# Altium integrated library LIB2022 - Optoelectronics.IntLib: 16 symbols
Pins are listed as number, name and electrical type; pins without a type are passive.

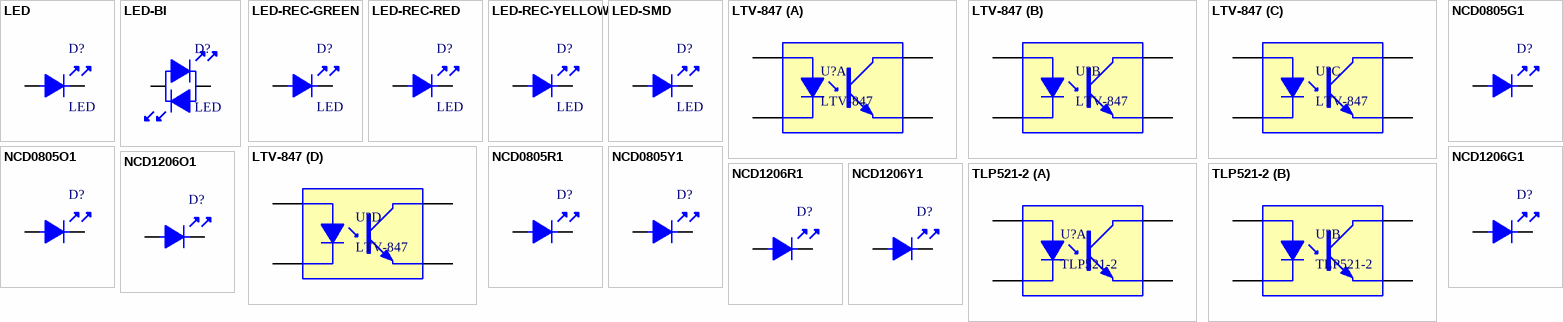
[diagram p0: symbols LED to TLP521-2]

## LED
designator D?
footprint LED-5MM
footprint LED-3MM
pins: 1, 2

## LED-BI
designator D?, comment LED
footprint LED-5MM - BI
footprint LED-3MM
pins: 1, 2

## LED-REC-GREEN
designator D?, comment LED
Green 5mm x 2mm Rectangular Led
footprint LED-5MMx2MM-G
pins: 1, 2

## LED-REC-RED
designator D?, comment LED
Red 5mm x 2mm Rectangular Led
footprint LED-5MMx2MM-R
pins: 1, 2

## LED-REC-YELLOW
designator D?, comment LED
Yellow 5mm x 2mm Rectangular Led
footprint LED-5MMx2MM-Y
pins: 1, 2

## LED-SMD
designator D?, comment LED
footprint LED-0805
pins: 1, 2

## LTV-847
designator U?
Optoisolator Transistor Output 5000Vrms 4 Channel 16-DIP; Digikey_PN: 160-1370-5-ND; JLCPart: C10794
footprint DIP16
part A pins: 1 A, 2 K, 15 E, 16 C
part B pins: 3 A, 4 K, 13 E, 14 C
part C pins: 5 A, 6 K, 11 E, 12 C
part D pins: 7 A, 8 K, 9 E, 10 C

## NCD0805G1
designator D?
Green 65mW 0805 Light Emitting Diodes (LED); JLCPart: C84260
footprint LED-0805
pins: 1, 2

## NCD0805O1
designator D?
Orange 65mW 0805 Light Emitting Diodes (LED); JLCPart: C84262
footprint LED-0805
pins: 1, 2

## NCD0805R1
designator D?
Red 65mW 0805 Light Emitting Diodes (LED); JLCPart: C84256
footprint LED-0805
pins: 1, 2

## NCD0805Y1
designator D?
Yellow 65mW 0805 Light Emitting Diodes (LED); JLCPart: C84261
footprint LED-0805
pins: 1, 2

## NCD1206G1
designator D?
Green 72mW 1206 Light Emitting Diodes (LED); JLCPart: C99881
footprint LED-1206
pins: 1, 2

## NCD1206O1
designator D?
Orange 72mW 1206 Light Emitting Diodes (LED); JLCPart: C130716
footprint LED-1206
pins: 1, 2

## NCD1206R1
designator D?
Red 72mW 1206 Light Emitting Diodes (LED); JLCPart: C84270
footprint LED-1206
pins: 1, 2

## NCD1206Y1
designator D?
Yellow 72mW 1206 Light Emitting Diodes (LED); JLCPart: C93094
footprint LED-1206
pins: 1, 2

## TLP521-2
designator U?
Optoisolator Transistor Output 5300Vrms 2 Channel 8-DIP; Digikey_PN: TLP521-2XGB-ND; JLCPart: C84298
footprint DIP8
part A pins: 1 A, 2 K, 7 E, 8 C
part B pins: 3 A, 4 K, 5 E, 6 C